# Altium schematic symbol library THD Specific Components.SchLib: 5 symbols
Pins are listed as number, name and electrical type; pins without a type are passive.

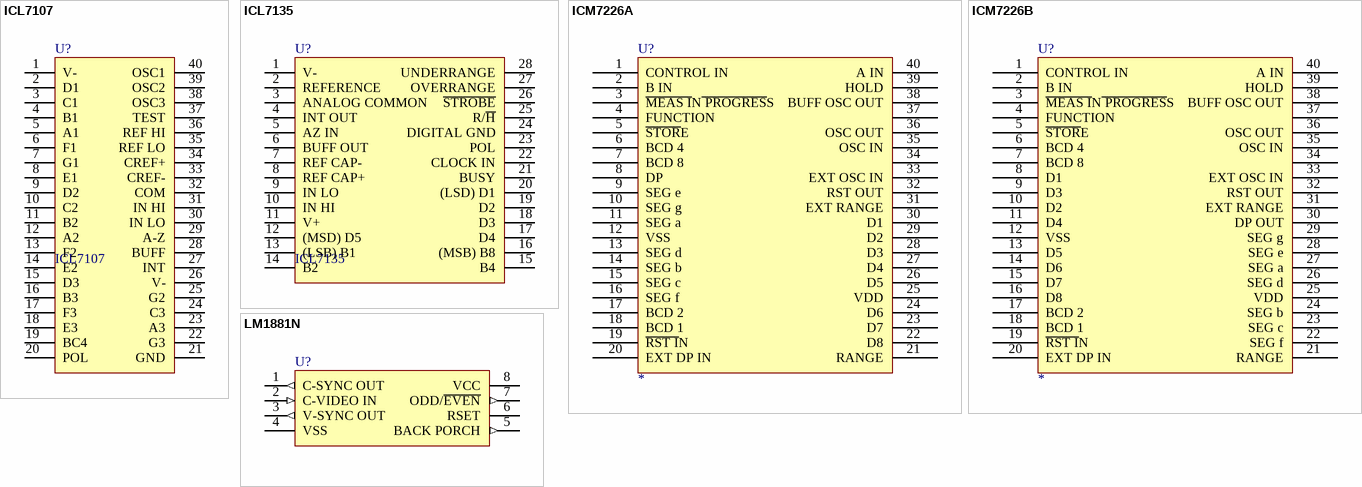
[diagram p0: symbols ICL7107 to LM1881N]

## ICL7107
designator U?
3 1/2 Digit, Single Chip, A/D Converter
footprint DIP40-600
footprint DIP40-600-Socket
footprint DIP40-600-BODY&SOCKET
pins: 1 V-, 2 D1, 3 C1, 4 B1, 5 A1, 6 F1, 7 G1, 8 E1, 9 D2, 10 C2, 11 B2, 12 A2, 13 F2, 14 E2, 15 D3, 16 B3, 17 F3, 18 E3, 19 BC4, 20 POL, 21 GND, 22 G3, 23 A3, 24 C3, 25 G2, 26 V-, 27 INT, 28 BUFF, 29 A-Z, 30 IN LO, 31 IN HI, 32 COM, 33 CREF-, 34 CREF+, 35 REF LO, 36 REF HI, 37 TEST, 38 OSC3, 39 OSC2, 40 OSC1

## ICL7135
designator U?
4 1/2 Digit, BCD Output, A/D Converter
footprint DIP28-600 (DIP; 28 Leads; Row Spacing 15.24 mm; Pitch 2.54 mm)
footprint DIP28-600-SOCKET (DIP; 28 Leads; Row Spacing 15.24 mm; Pitch 2.54 mm)
footprint DIP28-600-BODY&SOCKET (DIP; 28 Leads; Row Spacing 15.24 mm; Pitch 2.54 mm)
pins: 1 V-, 2 REFERENCE, 3 ANALOG COMMON , 4 INT OUT, 5 AZ IN, 6 BUFF OUT, 7 REF CAP-, 8 REF CAP+, 9 IN LO, 10 IN HI, 11 V+, 12 (MSD) D5, 13 (LSB) B1, 14 B2, 15 B4, 16 (MSB) B8, 17 D4, 18 D3, 19 D2, 20 (LSD) D1, 21 BUSY, 22 CLOCK IN, 23 POL, 24 DIGITAL GND, 25 R/~{H}, 26 ~{STROBE}, 27 OVERRANGE, 28 UNDERRANGE

## ICM7226A
designator U?
Common Anode, 8 Digit Multi Function Frequency Counter, Timer, Intersil, Harris; Text Field2: Intersil, RCA, Component Data Catalog 1987, Page 14-80..14-92; Text Field1: Common Anode, 8 Digit Multi Function Frequency Counter, Timer, Intersil, Harris; CERDIP40: *
footprint DIP40-600
footprint DIP40-600-BODY&SOCKET
pins: 1 CONTROL IN, 2 B IN, 3 ~{MEAS I}N~{ PROGRES}S, 4 FUNCTION, 5 ~{STOR}E, 6 BCD 4, 7 BCD 8, 8 DP, 9 SEG e, 10 SEG g, 11 SEG a, 12 VSS, 13 SEG d, 14 SEG b, 15 SEG c, 16 SEG f, 17 BCD 2, 18 BCD 1, 19 ~{RST I}N, 20 EXT DP IN, 21 RANGE, 22 D8, 23 D7, 24 D6, 25 VDD, 26 D5, 27 D4, 28 D3, 29 D2, 30 D1, 31 EXT RANGE, 32 RST OUT, 33 EXT OSC IN, 34 NC_1, 35 OSC IN, 36 OSC OUT, 37 NC2, 38 BUFF OSC OUT, 39 HOLD, 40 A IN

## ICM7226B
designator U?
Common Cathode, 8 Digit Multi Function Frequency Counter, Timer, Intersil, Harris; Text Field2: Intersil, RCA, Component Data Catalog 1987, Page 14-80..14-92; Text Field1: Common Cathode, 8 Digit Multi Function Frequency Counter, Timer, Intersil, Harris; PDIP40: *; CERDIP40: *
footprint DIP40-600
footprint DIP40-600-BODY&SOCKET
pins: 1 CONTROL IN, 2 B IN, 3 ~{MEAS I}N~{ PROGRES}S, 4 FUNCTION, 5 ~{STOR}E, 6 BCD 4, 7 BCD 8, 8 D1, 9 D3, 10 D2, 11 D4, 12 VSS, 13 D5, 14 D6, 15 D7, 16 D8, 17 BCD 2, 18 BCD 1, 19 ~{RST I}N, 20 EXT DP IN, 21 RANGE, 22 SEG f, 23 SEG c, 24 SEG b, 25 VDD, 26 SEG d, 27 SEG a, 28 SEG e, 29 SEG g, 30 DP OUT, 31 EXT RANGE, 32 RST OUT, 33 EXT OSC IN, 34 NC_1, 35 OSC IN, 36 OSC OUT, 37 NC2, 38 BUFF OSC OUT, 39 HOLD, 40 A IN

## LM1881N
designator U?
Video Sync Separator; Manufacturer: National Semiconductor; SubClass: Sync Circuit; Published: 15/04/2002; Publisher: Altium Hobart Technology Centre; Class: Video
footprint DIP8-300 (DIP; 8 Leads; Row Spacing 7.62 mm; Pitch 2.54 mm)
pins: 1 C-SYNC OUT (out), 2 C-VIDEO IN (in), 3 V-SYNC OUT (out), 4 VSS (power), 5 BACK PORCH (out), 6 RSET, 7 ODD/~{EVEN} (out), 8 VCC (power)